# Altium schematic symbol library MSP430F2132.SchLib: 1 symbol
Pins are listed as number, name and electrical type; pins without a type are passive.

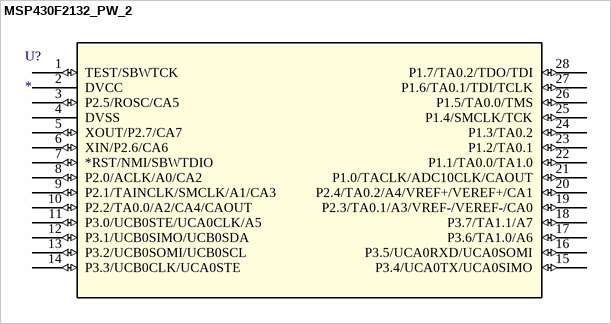
[diagram p0: symbol MSP430F2132_PW_2]

## MSP430F2132_PW_2
designator U?
MIXED SIGNAL MICROCONTROLLER; Manufacturer_Part_Number: msp430f2132_pw_28; GENERIC_PART_NUMBER: MSP430F2132; Vendor: Texas Instruments; PACKAGE_DESIGNATOR: PW; PIN_COUNT: 28; FAMILY_NAME: 2 Series; INDUSTRY_STD_PKG_TYPE: TSSOP; Datasheet URL: http://www.ti.com/lit/gpn/MSP430F2132; Manufacturer: Texas Instruments; RefDes: RefDes; Type: DEV; Value: Value
footprint PW28
pins: 1 TEST/SBWTCK (io), 2 DVCC (power), 3 P2.5/ROSC/CA5 (io), 4 DVSS (power), 5 XOUT/P2.7/CA7 (io), 6 XIN/P2.6/CA6 (io), 7 *RST/NMI/SBWTDIO (io), 8 P2.0/ACLK/A0/CA2 (io), 9 P2.1/TAINCLK/SMCLK/A1/CA3 (io), 10 P2.2/TA0.0/A2/CA4/CAOUT (io), 11 P3.0/UCB0STE/UCA0CLK/A5 (io), 12 P3.1/UCB0SIMO/UCB0SDA (io), 13 P3.2/UCB0SOMI/UCB0SCL (io), 14 P3.3/UCB0CLK/UCA0STE (io), 15 P3.4/UCA0TX/UCA0SIMO (io), 16 P3.5/UCA0RXD/UCA0SOMI (io), 17 P3.6/TA1.0/A6 (io), 18 P3.7/TA1.1/A7 (io), 19 P2.3/TA0.1/A3/VREF-/VEREF-/CA0 (io), 20 P2.4/TA0.2/A4/VREF+/VEREF+/CA1 (io), 21 P1.0/TACLK/ADC10CLK/CAOUT (io), 22 P1.1/TA0.0/TA1.0 (io), 23 P1.2/TA0.1 (io), 24 P1.3/TA0.2 (io), 25 P1.4/SMCLK/TCK (io), 26 P1.5/TA0.0/TMS (io), 27 P1.6/TA0.1/TDI/TCLK (io), 28 P1.7/TA0.2/TDO/TDI (io)